# Altium schematic symbol library Ferrit.Schlib: 1 symbol
Pins are listed as number, name and electrical type; pins without a type are passive.

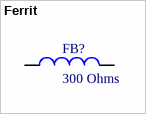
[diagram p0: symbol Ferrit]

## Ferrit
designator FB?, comment 300 Ohms
EMI Filter Beads, Chips & Arrays Ferrite Chip Beads
pins: 1, 2